# EAGLE library part RDA5807M (library rda5807m)
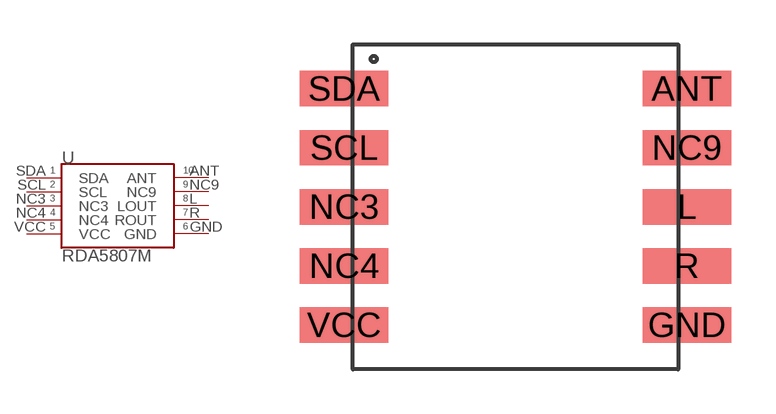
[diagram p0: symbol with the pads of RDA5807M; footprint RDA5807M]

Designator prefix -

## RDA5807M  [RDA5807M]
ANT  ANT
GND  GND
L  LOUT
NC3  NC3
NC4  NC4
NC9  NC9
R  ROUT
SCL  SCL
SDA  SDA
VCC  VCC

## Footprint RDA5807M (pad centres in mm)
smd 3 x 1.2: ANT 11.3,9.5; GND 11.3,1.5; L 11.3,5.5; NC3 -0.3,5.5; NC4 -0.3,3.5; NC9 11.3,7.5; R 11.3,3.5; SCL -0.3,7.5; SDA -0.3,9.5; VCC -0.3,1.5